# Altium schematic symbol library Diode_Lite-On_LTST-C155GEKT_eec.SchLib: 1 symbol
Pins are listed as number, name and electrical type; pins without a type are passive.

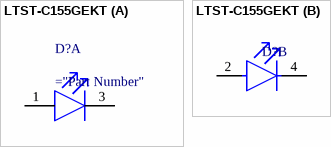
[diagram p0: symbol LTST-C155GEKT]

## LTST-C155GEKT
designator D?  (value not drawn)
LED GREEN/RED CLEAR CHIP SMD
footprint Lite-On_LTST-C155GEKT_0
part A pins: 1 GREEN A, 3 GREEN C
part B pins: 2 RED ORANGE ANODE, 4 RED ORANGE CATHODE